# Altium schematic symbol library 2 PIN HEADER.SchLib: 1 symbol
Pins are listed as number, name and electrical type; pins without a type are passive.

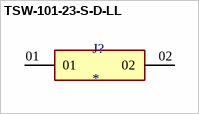
[diagram p0: symbol TSW-101-23-S-D-LL]

## TSW-101-23-S-D-LL
designator J?
MP: TSW-101-23-S-D-LL; Price: None; Value: *; Package: None; Availability: Unavailable
footprint SAMTEC_TSW-101-23-S-D-LL
pins: 01, 02